# EAGLE library part STLINK (library kmod-connectors)
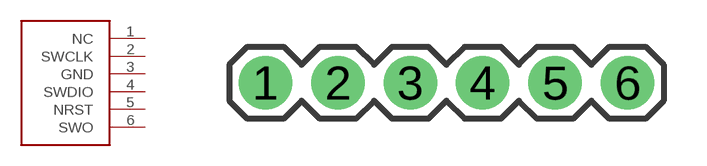
[diagram p5: symbol with the pads of 1X06; footprint 1X06]

Designator prefix -

## STLINK  [1X06]
1  NC
2  SWCLK
3  GND
4  SWDIO
5  NRST
6  SWO

## Footprint 1X06 (pad centres in mm)
drill 1.016 pad 1.88: 1 0,0; 2 2.54,0; 3 5.08,0; 4 7.62,0; 5 10.16,0; 6 12.7,0